# EAGLE library part MIDI-CODEC-VS10X3 (library FlashPCB_ICs)
VS1053 / VS1063 - Ogg Vorbis/MP3/AAC/WMA/ FLAC/WAVMIDI audio decoder as well as an PCM/IMA ADPCM/Ogg Vorbis encoder Technical Specifications: MP3 = MPEG 1 & 2 audio layer III (CBR +VBR +ABR) MP1/MP2 = layers I & II optional Component Search: VS1053 / VS1063 <https://www.flashpcb.com/components> Datasheet: VS1053b - Ogg Vorbis/MP3/AAC/WMA/FLAC/ MIDI AUDIO CODEC CIRCUIT <https://www.vlsi.fi/fileadmin/datasheets/vs1053.pdf>
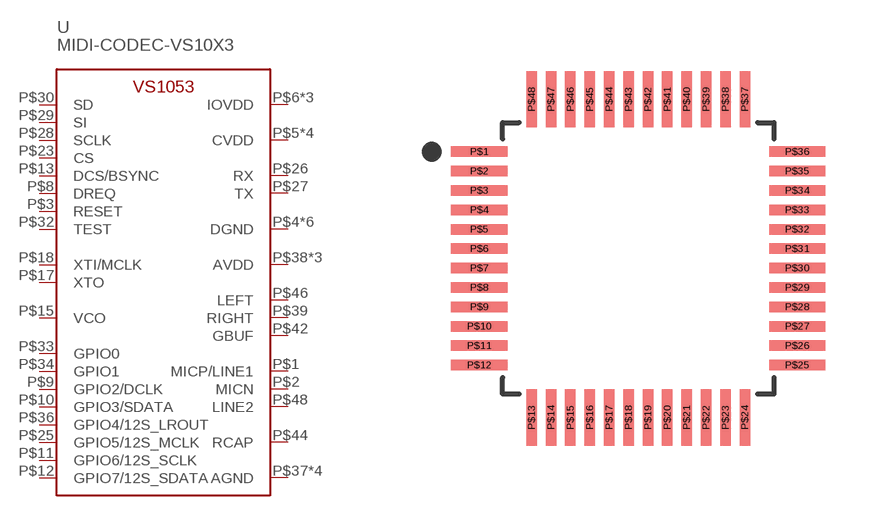
[diagram p59: symbol with the pads of 48-LQFP(7X7); footprint 48-LQFP(7X7)]

Designator prefix U

## MIDI-CODEC-VS10X3  [48-LQFP(7X7)]
P$1  MICP/LINE1
P$2  MICN
P$3  RESET
P$4  DGND
P$5  CVDD
P$6  IOVDD
P$7  CVDD
P$8  DREQ
P$9  GPIO2/DCLK
P$10  GPIO3/SDATA
P$11  GPIO6/12S_SCLK
P$12  GPIO7/12S_SDATA
P$13  DCS/BSYNC
P$14  IOVDD
P$15  VCO
P$16  DGND
P$17  XTO
P$18  XTI/MCLK
P$19  IOVDD
P$20  DGND
P$21  DGND
P$22  DGND
P$23  CS
P$24  CVDD
P$25  GPIO5/12S_MCLK
P$26  RX
P$27  TX
P$28  SCLK
P$29  SI
P$30  SD
P$31  CVDD
P$32  TEST
P$33  GPIO0
P$34  GPIO1
P$35  DGND
P$36  GPIO4/12S_LROUT
P$37  AGND
P$38  AVDD
P$39  RIGHT
P$40  AGND
P$41  AGND
P$42  GBUF
P$43  AVDD
P$44  RCAP
P$45  AVDD
P$46  LEFT
P$47  AGND
P$48  LINE2

## Footprint 48-LQFP(7X7) (pad centres in mm)
smd 1.45 x 0.27: P$1 -4.1,2.75; P$2 -4.1,2.25; P$3 -4.1,1.75; P$4 -4.1,1.25; P$5 -4.1,0.75; P$6 -4.1,0.25; P$7 -4.1,-0.25; P$8 -4.1,-0.75; P$9 -4.1,-1.25; P$10 -4.1,-1.75; P$11 -4.1,-2.25; P$12 -4.1,-2.75; P$25 4.1,-2.75; P$26 4.1,-2.25; P$27 4.1,-1.75; P$28 4.1,-1.25; P$29 4.1,-0.75; P$30 4.1,-0.25; P$31 4.1,0.25; P$32 4.1,0.75; P$33 4.1,1.25; P$34 4.1,1.75; P$35 4.1,2.25; P$36 4.1,2.75
smd 0.27 x 1.45: P$13 -2.75,-4.1; P$14 -2.25,-4.1; P$15 -1.75,-4.1; P$16 -1.25,-4.1; P$17 -0.75,-4.1; P$18 -0.25,-4.1; P$19 0.25,-4.1; P$20 0.75,-4.1; P$21 1.25,-4.1; P$22 1.75,-4.1; P$23 2.25,-4.1; P$24 2.75,-4.1; P$37 2.75,4.1; P$38 2.25,4.1; P$39 1.75,4.1; P$40 1.25,4.1; P$41 0.75,4.1; P$42 0.25,4.1; P$43 -0.25,4.1; P$44 -0.75,4.1; P$45 -1.25,4.1; P$46 -1.75,4.1; P$47 -2.25,4.1; P$48 -2.75,4.1